# Altium schematic symbol library ThermostaticBath.SCHLIB: 24 symbols
Pins are listed as number, name and electrical type; pins without a type are passive.

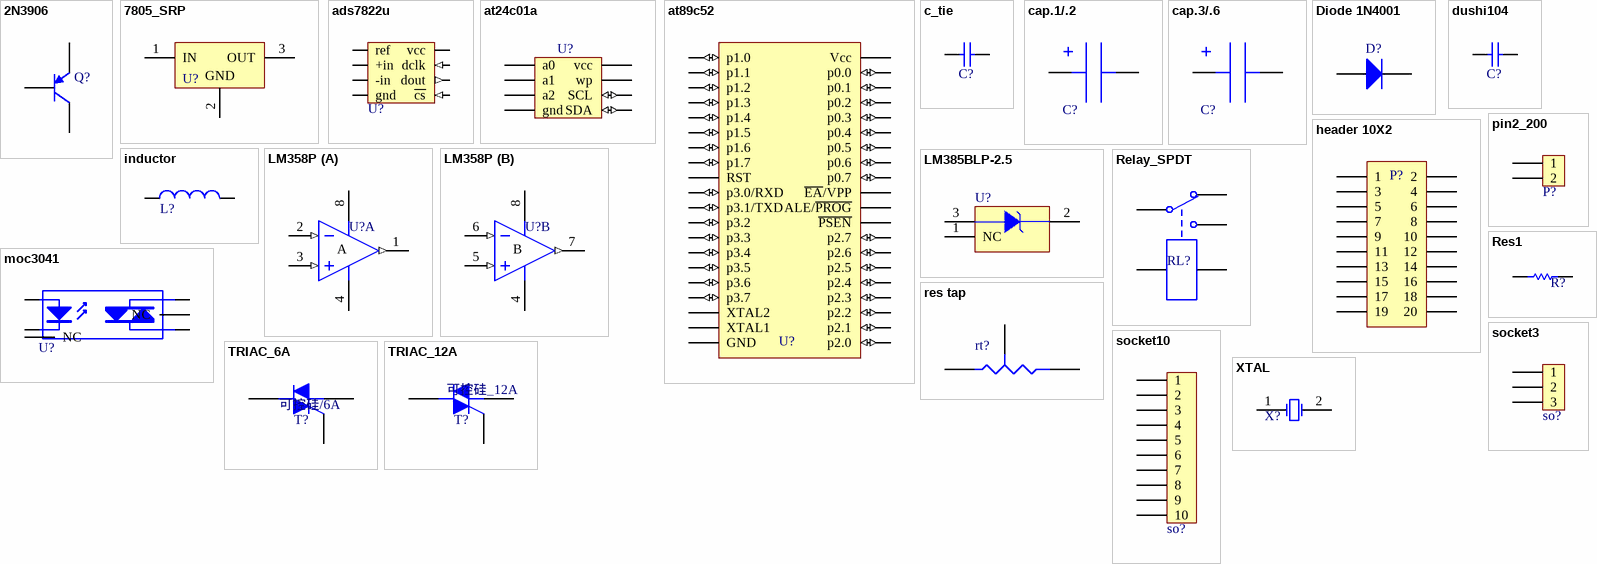
[diagram p0: symbols 2N3906 to XTAL]

## 2N3906
designator Q?, comment 9012/三极管  (value not drawn)
PNP General Purpose Amplifier; Published: 8-Jun-2000; LatestRevisionDate: 15-Jan-2003; LatestRevisionNote: PCB Footprint 'BCY-W3/D4.7' replaced; DatasheetDocument: 1997; PackageDocument: Sep-1998; PackageReference: TO-92A; Publisher: Altium Limited; Code_JEDEC: TO-92A; ComponentLink1Description: Manufacturer Link; ComponentLink1URL: http://www.fairchildsemi.com/; ComponentLink2Description: Datasheet; ComponentLink2URL: http://www.fairchildsemi.com/ds/2N%2F2N3906.pdf
footprint TO-92A (TO, Flat Index; 3 In-Line, Axial Leads; Body Dia. 4.5mm; Leads 0.51 x 0.48 mm (max))
simulation model 2N3906 (PNP)
signal-integrity model 2N3906
pins: 1 E, 2 B, 3 C

## 7805_SRP
designator U?, comment 7805  (value not drawn)
footprint 7805_SRP
pins: 1 IN (power), 2 GND (power), 3 OUT (power)

## ads7822u
designator U?  (value not drawn)
footprint so_8
pins: 1 ref, 2 +in, 3 -in, 4 gnd (power), 5 ~{cs} (in), 6 dout (out), 7 dclk (in), 8 vcc (power)

## at24c01a
designator U?  (value not drawn)
footprint so_8
pins: 1 a0, 2 a1, 3 a2, 4 gnd (power), 5 SDA (io), 6 SCL (io), 7 wp, 8 vcc (power)

## at89c52
designator U?  (value not drawn)
footprint DIP40
pins: 1 p1.0 (io), 2 p1.1 (io), 3 p1.2 (io), 4 p1.3 (io), 5 p1.4 (io), 6 p1.5 (io), 7 p1.6 (io), 8 p1.7 (io), 9 RST, 10 p3.0/RXD (io), 11 p3.1/TXD (io), 12 p3.2 (io), 13 p3.3 (io), 14 p3.4 (io), 15 p3.5 (io), 16 p3.6 (io), 17 p3.7 (io), 18 XTAL2, 19 XTAL1, 20 GND (power), 21 p2.0 (io), 22 p2.1 (io), 23 p2.2 (io), 24 p2.3 (io), 25 p2.4 (io), 26 p2.5 (io), 27 p2.6 (io), 28 p2.7 (io), 29 ~{PSEN}, 30 ALE/~{PROG}, 31 ~{EA}/VPP, 32 p0.7 (io), 33 p0.6 (io), 34 p0.5 (io), 35 p0.4 (io), 36 p0.3 (io), 37 p0.2 (io), 38 p0.1 (io), 39 p0.0 (io), 40 Vcc (power)

## c_tie
designator C?, comment 贴片/30PF  (value not drawn)
footprint 0805
pins: 1, 2

## cap.1/.2
designator C?, comment 220UF/16V  (value not drawn)
footprint rb.1/.2
pins: 1, 2

## cap.3/.6
designator C?, comment 4700UF/25V  (value not drawn)
footprint rb.3/.6
pins: 1, 2

## Diode 1N4001
designator D?, comment 1N4001  (value not drawn)
1 Amp General Purpose Rectifier; Published: 8-Jun-2000; LatestRevisionDate: 17-Jul-2002; LatestRevisionNote: Re-released for DXP Platform.; DatasheetDocument: 1998; PackageDocument: Aug-1999; PackageReference: DO-41; Publisher: Altium Limited; Code_JEDEC: DO-204-AL; ComponentLink1Description: Manufacturer Link; ComponentLink1URL: http://www.fairchildsemi.com/; ComponentLink2Description: Datasheet; ComponentLink2URL: http://www.fairchildsemi.com/ds/1N%2F1N4001.pdf
footprint DO-41 (Diode, Axial; Body 5.2 x 2.7 mm (LxDia. max), Lead Dia. 0.86 mm (max))
simulation model 1N4001 (DIODE)
signal-integrity model 1N4001
pins: 1 A, 2 K

## dushi104
designator C?, comment 0.1uf  (value not drawn)
footprint RAD0.1
pins: 1, 2

## header 10X2
designator P?, comment header 10X2/接插件  (value not drawn)
footprint hdr2X10
pins: 1, 2, 3, 4, 5, 6, 7, 8, 9, 10, 11, 12, 13, 14, 15, 16, 17, 18, 19, 20

## inductor
designator L?, comment 10uh/0805/电感  (value not drawn)
footprint 1210
footprint 1206
footprint 0805
pins: 1, 2

## LM358P
designator U?  (value not drawn)
Dual Operational Amplifier; Published: 16-Jan-2001; LatestRevisionDate: 04-Mar-2005; LatestRevisionNote: Stylized 3D Model Added.; DatasheetVersion: Jul-1998; PackageVersion: Jun-1999; PackageReference: P008; Publisher: Altium Limited; PackageDescription: DIP; 8 Leads; Row Spacing 7.62 mm; Pitch 2.54 mm; Code_JEDEC: MO-001-AN; ComponentLink1Description: Manufacturer Link; ComponentLink1URL: http://www.ti.com/; ComponentLink2Description: Datasheet; ComponentLink2URL: http://www-s.ti.com/sc/ds/lm358.pdf
footprint P008 (DIP; 8 Leads; Row Spacing 7.62 mm; Pitch 2.54 mm)
3D model P008 (DIP; 8 Leads; Row Spacing 7.62 mm; Pitch 2.54 mm)
simulation model LM358 (SUBCKT)
pins on every part: 4 V- (power), 8 V+ (power)
part A pins: 1 OUT (out), 2 IN- (in), 3 IN+ (in)
part B pins: 5 IN+ (in), 6 IN- (in), 7 OUT (out)
part A text: A
part B text: B

## LM385BLP-2.5
designator U?, comment LM385-1.2  (value not drawn)
Micropower Voltage Reference; Published: 15-Apr-2002; DatasheetVersion: Jan-1989; PackageVersion: Nov-2001; PackageReference: LP03; Publisher: Altium Limited; PackageDescription: TO, Flat Index; 3 In-Line, Axial Leads; Body Dia. 4.8mm; Leads 0.56 x 0.41 mm (max); Code_JEDEC: TO-226-AA; ComponentLink1Description: Manufacturer Link; ComponentLink1URL: http://www.ti.com/
footprint LP03 (TO, Flat Index; 3 In-Line, Axial Leads; Body Dia. 4.8mm; Leads 0.56 x 0.41 mm (max))
pins: 1 NC, 2 K, 3 A

## moc3041
designator U?  (value not drawn)
footprint DIP6
pins: 1 A, 2 K, 3 NC, 4 A/K, 5 NC, 6 A/K

## pin2_200
designator P?, comment 接插件/间隔200mil  (value not drawn)
footprint pin2_200
pins: 1, 2

## Relay_SPDT
designator RL?, comment HHC66A-1Z-05VDC  (value not drawn)
footprint Relay_SPDT
pins: 1, 2, 3, 4, 5

## Res1
designator R?, comment 3k/0.1%  (value not drawn)
Resistor; Value: 3k; Published: 8-Jun-2000; LatestRevisionDate: 17-Jul-2002; LatestRevisionNote: Re-released for DXP Platform.; PackageReference: AXIAL-0.3; Publisher: Altium Limited
footprint AXIAL-0.3 (Resistor; 2 Leads)
simulation model RESISTOR (Resistor)
signal-integrity model Res
pins: 1, 2

## res tap
designator rt?, comment 10k  (value not drawn)
footprint res tap
pins: 1 A, 2 TAP, 3 B

## socket3
designator so?, comment 接插件/传感器  (value not drawn)
footprint socket3
pins: 1 (power), 2 (power), 3 (power)

## socket10
designator so?, comment 220V/接插件  (value not drawn)
footprint socket10
pins: 1 (power), 2 (power), 3 (power), 4 (power), 5 (power), 6 (power), 7 (power), 8 (power), 9 (power), 10 (power)

## TRIAC_6A
designator T?, comment 可控硅/6A
footprint TRIAC_6A
pins: 1 M1, 2 M2, 3 G

## TRIAC_12A
designator T?, comment 可控硅_12A
footprint TRIAC_12A
pins: 1 M1, 2 M2, 3 G

## XTAL
designator X?, comment 12M/晶体  (value not drawn)
footprint XTAL
pins: 1 OSC1, 2 OSC2